# EAGLE library part DISTORTION-V1.0 (library XM8)
Xonik Hard/Soft clipping distortion
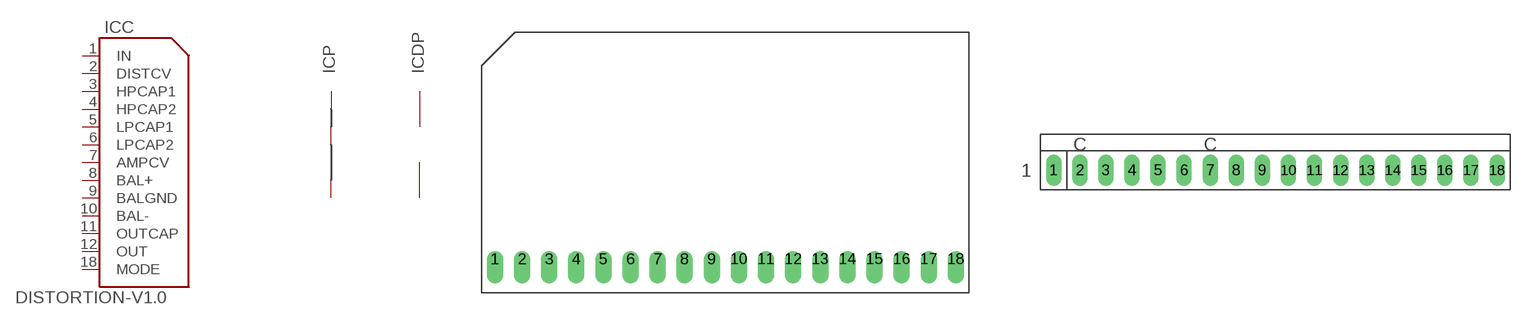
[diagram p2: symbol with the pads of XM8-DISTORTION-V1.0H; footprints XM8-DISTORTION-V1.0H, XM8-DISTORTION-V1.0V]

Designator prefix IC; gates C=XM8-DISTORTION-V1.0 P=XM8-PWR DP=XM8-DIG-PWR

## DISTORTION-V1.0V  [XM8-DISTORTION-V1.0H]
1  C:IN
2  C:DISTCV
3  C:HPCAP1
4  C:HPCAP2
5  C:LPCAP1
6  C:LPCAP2
7  C:AMPCV
8  C:BAL+
9  C:BALGND
10  C:BAL-
11  C:OUTCAP
12  C:OUT  out
13  P:+V  pwr
14  P:AGND  pwr
15  P:-V  pwr
16  DP:+5V  pwr
17  DP:DGND  pwr
18  C:MODE  out

## DISTORTION-V1.0H  [XM8-DISTORTION-V1.0V]
Pads as for XM8-DISTORTION-V1.0H

## Footprint XM8-DISTORTION-V1.0H (pad centres in mm)
Xonik Hard/Soft clipping distortion, horizontal mount
drill 1.016 offset: 1 -21.59,0; 2 -19.05,0; 3 -16.51,0; 4 -13.97,0; 5 -11.43,0; 6 -8.89,0; 7 -6.35,0; 8 -3.81,0; 9 -1.27,0; 10 1.27,0; 11 3.81,0; 12 6.35,0; 13 8.89,0; 14 11.43,0; 15 13.97,0; 16 16.51,0; 17 19.05,0; 18 21.59,0

## Footprint XM8-DISTORTION-V1.0V (pad centres in mm)
Xonik Hard/Soft clipping distortion, vertical mount
drill 1.016 long: 1 -21.59,0; 2 -19.05,0; 3 -16.51,0; 4 -13.97,0; 5 -11.43,0; 6 -8.89,0; 7 -6.35,0; 8 -3.81,0; 9 -1.27,0; 10 1.27,0; 11 3.81,0; 12 6.35,0; 13 8.89,0; 14 11.43,0; 15 13.97,0; 16 16.51,0; 17 19.05,0; 18 21.59,0